# Altium footprint library robot.PcbLib: 10 footprints
Each footprint in its own frame and in the unit in brackets; x right, y up, seen from the top. Pads: shape width x height; smd on the part's side, far side on the other; paste and mask are expansions set on the pad; w line width, h text height; cw(c..) or ccw(c..) is an arc to the next point about the centre after c.
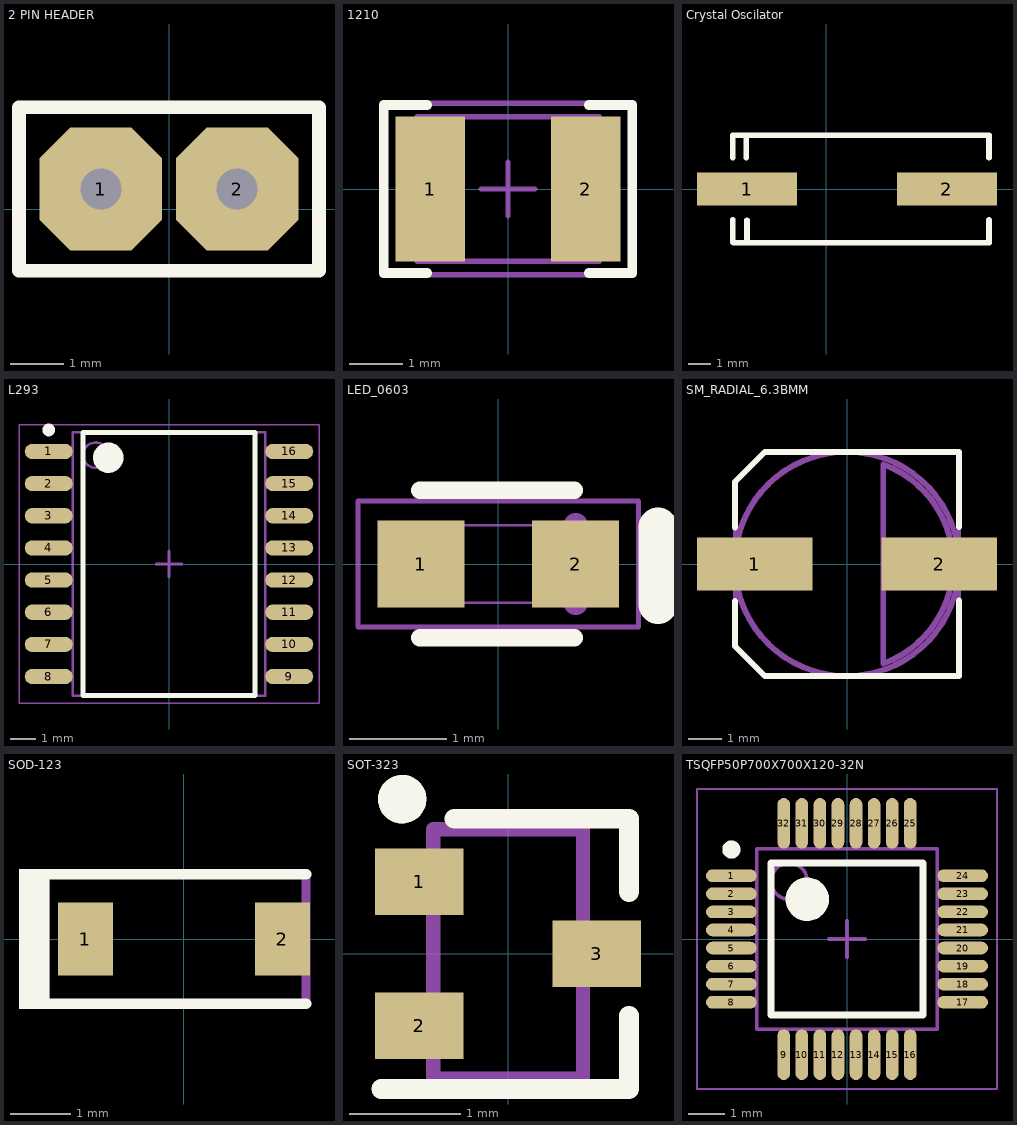
[diagram p0: the footprints below, top view; thin cyan lines are the x and y axes]

## 2 PIN HEADER [mil]
pads (2):
  oct 90x90 hole 30: 1(-50,15) 2(50,15)
Top Overlay:
  lines w10: -110,-45 110,-45 110,75 -110,75 -110,-45
3D body "2way header.stp": height 50, standoff -50, extent -100,-160 100,310

## 0603 [mm] "0603 from SM-752 data"
height 0.85

## 1210 [mm] "1210 from SM-752 data"
height 1.35
pads (2):
  rect 1.3x2.7 smd: 1(-1.45,0) 2(1.45,0)
Top Overlay:
  lines w0.178: -1.511,-1.568 -2.316,-1.568 -2.316,1.568 -1.511,1.568 ; 1.511,-1.568 2.316,-1.568 2.316,1.568 1.511,1.568
Mechanical 5:
  lines w0.1: -1.7,-1.35 -1.7,1.35 1.7,1.35 1.7,-1.35 -1.7,-1.35
  text ".Designator" at 1.118,0.533 h0.91
Mechanical 13:
  lines w0.1: -1.2,-1.35 -1.2,1.35 ; 1.2,-1.35 1.2,1.35 ; -1.7,-1.35 1.7,-1.35 1.7,1.35 -1.7,1.35 -1.7,-1.35
Mechanical 15:
  lines w0.1: -0.5,0 0.5,0 ; 0,-0.5 0,0.5 ; -2.35,-1.6 2.35,-1.6 2.35,1.6 -2.35,1.6 -2.35,-1.6
3D body: height 1.35, standoff 0, extent 1.201,-1.349 1.699,1.349
3D body: height 1.35, standoff 0, extent -1.199,-1.349 1.199,1.349
3D body: height 1.35, standoff 0, extent -1.699,-1.349 -1.201,1.349

## Crystal Oscilator [mm]
pads (2):
  rect 4.5x1.5 smd: 1(-3.556,0) 2(5.444,0)
Top Overlay:
  lines w0.254: -4.191,-2.389 -4.191,-1.389 ; -4.191,1.413 -4.191,2.413 7.309,2.413 ; -4.156,-2.413 7.344,-2.413 ; -3.591,1.413 -3.591,2.413 ; -3.556,-2.413 -3.556,-1.413 ; 7.331,-2.397 7.331,-1.397 ; 7.331,1.413 7.331,2.413
3D body "smdcrystal.STEP": height 3.85, standoff 0, extent -5.833,-2.387 7.747,2.413

## L293 [mm] "SOP, 16-Leads, Body 10.29x7.52mm, Pitch 1.27mm, IPC Medium Density"
height 2.65
pads (16):
  oval 1.9x0.6 smd: 1(-4.75,4.445) 2(-4.75,3.175) 3(-4.75,1.905) 4(-4.75,0.635) 5(-4.75,-0.635) 6(-4.75,-1.905) 7(-4.75,-3.175) 8(-4.75,-4.445) 9(4.75,-4.445) 10(4.75,-3.175) 11(4.75,-1.905) 12(4.75,-0.635) 13(4.75,0.635) 14(4.75,1.905) 15(4.75,3.175) 16(4.75,4.445)
Top Overlay:
  circle w0.6: c-2.4,4.2 r0.3
  circle w0.25: c-4.75,5.295 r0.125
  lines w0.2: -3.4,-5.2 3.4,-5.2 3.4,5.2 -3.4,5.2 -3.4,-5.2
Mechanical 13:
  circle w0.1: c-2.9,4.3 r0.5
  lines w0.1: -3.8,-5.2 3.8,-5.2 3.8,5.2 -3.8,5.2 -3.8,-5.2
Mechanical 15:
  lines w0.05: -5.925,-5.5 5.925,-5.5 5.925,5.5 -5.925,5.5 -5.925,-5.5
  lines w0.1: -0.5,0 0.5,0 ; 0,-0.5 0,0.5
3D body: height 2.65, standoff 0.05, extent -3.8,-5.2 3.8,5.2

## LED_0603 [mm] "LED, HIGHBRIGHT, BLUE, SMT0603"
height 0.8
pads (2):
  rect 0.9x0.9 smd paste+0: 1(-0.8,0) 2(0.8,0)
Top Overlay:
  lines w0.178: -0.813,-0.762 0.787,-0.762 ; -0.813,0.762 0.787,0.762
  lines w0.405: 1.651,-0.419 1.651,0.381
  text ".Designator" at -1.778,0.127 h1.02
Mechanical 5:
  lines w0.025: -0.8,-0.4 0.8,-0.4 0.8,0.4 -0.8,0.4
  lines w0.254: 0.8,-0.4 0.8,0.4
  text ".Designator" at 0.762,1.778 h1.02
Mechanical 15:
  lines w0.05: -1.45,-0.65 -1.45,0.65 1.45,0.65 1.45,-0.65 -1.45,-0.65
3D body: height 0.8, standoff 0, extent -0.546,-0.273 1.054,0.527

## SM_RADIAL_6.3BMM [mm] "Nichicon 6.3x7.7"
height 8
pads (2):
  rect 3.5x1.6 smd: 1(-2.8,0) 2(2.8,0)
Top Overlay:
  lines w0.178: -3.4,-1.122 -3.4,-2.493 -2.493,-3.4 3.4,-3.4 3.4,-1.112 ; -3.4,1.108 -3.4,2.493 -2.493,3.4 3.4,3.4 3.4,1.118
Mechanical 5:
  lines w0.127: -3.4,-2.493 -3.4,2.493 -2.493,3.4 3.4,3.4 3.4,-3.4 -2.493,-3.4 -3.4,-2.493
  text ".Designator" at -0.533,0.889 h0.91
Mechanical 13:
  circle w0.178: c0,0 r3.4
  lines w0.178: 1.1,-3.022 ccw(c0,0) 1.1,3.022 1.1,-3.022
3D body: height 1, standoff 0, extent -3.401,-3.401 3.401,3.401
3D body: height 8, standoff 1, extent -3.399,-3.399 3.399,3.399
3D body: height 8, standoff 6, extent 1.1,-3.023 3.217,3.023

## SOD-123 [mm] "On Semi recommended land pattern"
height 1.35
pads (2):
  rect 0.915x1.22 smd: 1(-1.637,0) 2(1.637,0)
Top Overlay:
  rectangle: -2.743,-1.168 -2.235,1.168
  lines w0.178: -2.413,-1.079 2.032,-1.079 ; -2.413,1.079 2.032,1.079
Mechanical 5:
  rectangle: -2.743,-1.168 -2.235,1.168
  lines w0.152: -2.413,-1.079 2.032,-1.079 2.032,1.079 -2.413,1.079
  text ".Designator" at 0.508,2.159 h0.76
3D body "SOD-123.stp": height 1.35, standoff 0, extent -1.932,-0.9 1.932,0.9

## SOT-323 [mm] "Zetex recommended land pattern.  March 2007"
height 1.1
pads (3):
  rect 0.8x0.6 smd: 1(-0.8,0.65) 2(-0.8,-0.65) 3(0.8,0)
Top Overlay:
  circle w0.254: c-0.955,1.397 r0.092
  lines w0.178: -1.143,-1.219 1.092,-1.219 1.092,-0.559 ; -0.483,1.219 1.092,1.219 1.092,0.559
Mechanical 5:
  circle w0.254: c-0.955,1.397 r0.092
  lines w0.127: -1.125,-0.8 -0.975,-0.8 -0.935,-0.8 -0.884,-0.8 -0.725,-0.8 -0.675,-0.8 -0.675,-0.5 -0.725,-0.5 -0.884,-0.5 -0.935,-0.5 -0.975,-0.5 -1.125,-0.5 -1.125,-0.8 ; -1.125,0.5 -0.975,0.5 -0.935,0.5 -0.884,0.5 -0.725,0.5 -0.675,0.5 -0.675,0.8 -0.725,0.8 -0.884,0.8 -0.935,0.8 -0.975,0.8 -1.125,0.8 -1.125,0.5 ; -0.675,-1.125 0.675,-1.125 0.675,1.125 -0.675,1.125 -0.675,-1.125 ; 0.675,-0.15 0.675,0.15 0.725,0.15 0.884,0.15 0.935,0.15 0.975,0.15 1.125,0.15 1.125,-0.15 0.975,-0.15 0.935,-0.15 0.884,-0.15 0.725,-0.15 0.675,-0.15
  text ".Designator" at -0.903,-2.235 h0.76
3D body "SC-70.stp": height 1.13, standoff 0.02, extent -1.125,-1.125 1.125,1.125

## TSQFP50P700X700X120-32N [mm] "TSQFP, 32-Leads, Body 5.00x5.00mm, Pitch 0.50mm, IPC Medium Density"
height 1.2
pads (32):
  oval 1.4x0.35 smd: 1(-3.2,1.75) 2(-3.2,1.25) 3(-3.2,0.75) 4(-3.2,0.25) 5(-3.2,-0.25) 6(-3.2,-0.75) 7(-3.2,-1.25) 8(-3.2,-1.75) 17(3.2,-1.75) 18(3.2,-1.25) 19(3.2,-0.75) 20(3.2,-0.25) 21(3.2,0.25) 22(3.2,0.75) 23(3.2,1.25) 24(3.2,1.75)
  oval 0.35x1.4 smd: 9(-1.75,-3.2) 10(-1.25,-3.2) 11(-0.75,-3.2) 12(-0.25,-3.2) 13(0.25,-3.2) 14(0.75,-3.2) 15(1.25,-3.2) 16(1.75,-3.2) 25(1.75,3.2) 26(1.25,3.2) 27(0.75,3.2) 28(0.25,3.2) 29(-0.25,3.2) 30(-0.75,3.2) 31(-1.25,3.2) 32(-1.75,3.2)
Top Overlay:
  circle w0.25: c-3.2,2.475 r0.125
  circle w0.6: c-1.1,1.1 r0.3
  lines w0.2: -2.1,-2.1 -2.1,2.1 2.1,2.1 2.1,-2.1 -2.1,-2.1
Mechanical 13:
  circle w0.1: c-1.6,1.6 r0.5
  lines w0.1: -2.5,-2.5 -2.5,2.5 2.5,2.5 2.5,-2.5 -2.5,-2.5
Mechanical 15:
  lines w0.05: -4.15,-4.15 -4.15,4.15 4.15,4.15 4.15,-4.15 -4.15,-4.15
  lines w0.1: -0.5,0 0.5,0 ; 0,-0.5 0,0.5
3D body "TSQFP50P700X700X120-32N.step": height 1.2, standoff 0, extent -3.5,-3.5 3.5,3.5